# EAGLE library part 43045-0612 (library con-Molex)
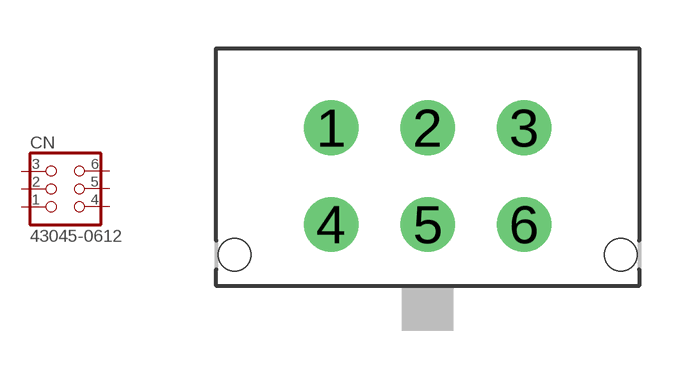
[diagram p11: symbol with the pads of 43045-0612; footprint 43045-0612]

Designator prefix CN

## 43045-0612  [43045-0612]
1  1  pas
2  2  pas
3  3  pas
4  4  pas
5  5  pas
6  6  pas

## Footprint 43045-0612 (pad centres in mm)
drill 1.1 pad 1.7: 1 -3,1.5; 2 0,1.5; 3 3,1.5; 4 -3,-1.5; 5 0,-1.5; 6 3,-1.5
hole 1 at -6,-2.44
hole 1 at 6,-2.44